# Altium integrated library SML-311UTT86.IntLib: 1 symbol
Pins are listed as number, name and electrical type; pins without a type are passive.

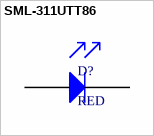
[diagram p0: symbol SML-311UTT86]

## SML-311UTT86
designator D?, comment RED
SML-311UTT86, Red LED diode, ROHM
footprint SODFL160X80-2N (SODFL, 2-Leads, Body 0.80x1.60mm, IPC Medium Density)
pins: 1 C, 2 A